# Altium integrated library ON Semi MOSFETs.IntLib: 1097 symbols (part 3 of 26)
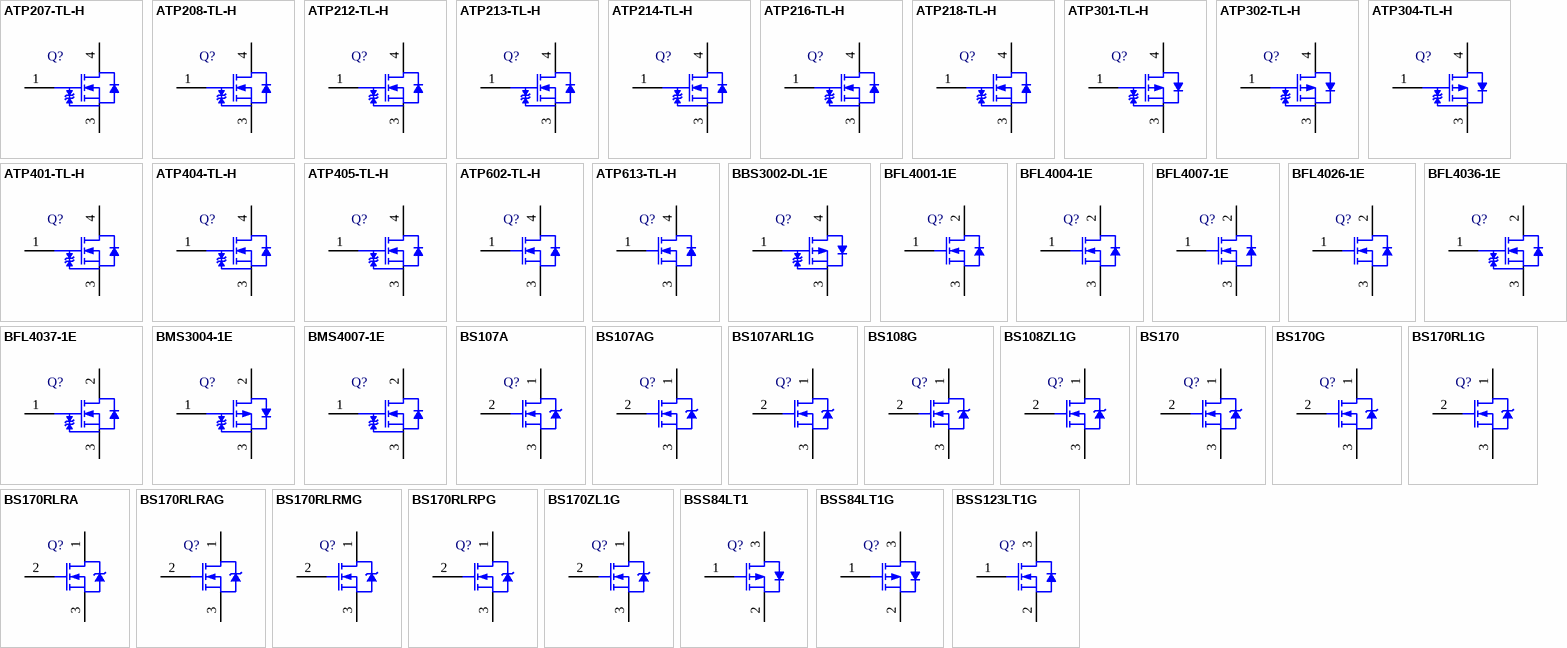
[diagram p33: symbols ATP207-TL-H to BSS123LT1G]

## ATP212-TL-H
designator Q?
N-Channel Power MOSFET, 60 V, 35 A, 23 mOhm, Single, 3-Pin ATPAK, Pb-Free, Tape and Reel; Manufacturer: On Semiconductor; PartNumber: ATP212-TL-H; Channel Polarity: N Channel; Ciss Typ (pF): 1820; Coss Typ (pF): 150; Crss Typ (pF): 100; ID Max (A): 35; PD Max (W): 40; V(BR)DSS Min (V): 60; VGS Max (V): 20; VGS(th) Max (V): 2.6; PackageVersion: Rev. O, 02/2012; PackageReference: ATPAK-3-369AM; PackageDescription: 3-Pin Flange Mount, Body 6.5 x 7.3 mm, Pitch 2.3 mm; Supplier 1: Digi-Key; Supplier Part Number 1: 869-1084-2-ND; Supplier 2: Digi-Key; Supplier Part Number 2: 869-1084-1-ND; Supplier 3: Digi-Key; Supplier Part Number 3: 869-1084-6-ND; Supplier 4: Mouser; Supplier Part Number 4: 863-ATP212-TL-H; Configuration: Single; Package Type: DPAK (Single Gauge) / ATPAK; Packing: Tape and Reel; RoHS: Pb-Free; Mounting Technology: Surface Mount; ComponentLink1Description: Manufacturer URL; ComponentLink1URL: http://www.onsemi.com/; ComponentLink2Description: Datasheet; ComponentLink2URL: http://www.onsemi.com/pub_link/Collateral/ATP212-D.PDF; ComponentLink3Description: Package Specification; ComponentLink3URL: http://www.onsemi.com/pub_link/Collateral/369AM.PDF
footprint ONSC-ATPAK-3-369AM_V (DPAK, 3-Leads, Body 7.3x6.5mm, Pitch 2.3mm)
pins: 1 G, 3 S, 4 D

## ATP213-TL-H
designator Q?
N-Channel Power MOSFET, 60 V, 50 A, 16 mOhm, Single, 3-Pin ATPAK, Pb-Free, Tape and Reel; Manufacturer: On Semiconductor; PartNumber: ATP213-TL-H; Channel Polarity: N Channel; Ciss Typ (pF): 3150; Coss Typ (pF): 310; Crss Typ (pF): 190; ID Max (A): 50; V(BR)DSS Min (V): 60; VGS Max (V): 20; VGS(th) Max (V): 2.6; PackageVersion: Rev. O, 02/2012; PackageReference: ATPAK-3-369AM; PackageDescription: 3-Pin Flange Mount, Body 6.5 x 7.3 mm, Pitch 2.3 mm; Supplier 1: Digi-Key; Supplier Part Number 1: 869-1085-2-ND; Supplier 2: Digi-Key; Supplier Part Number 2: 869-1085-1-ND; Supplier 3: Digi-Key; Supplier Part Number 3: 869-1085-6-ND; Supplier 4: Mouser; Supplier Part Number 4: 863-ATP213-TL-H; Configuration: Single; Package Type: DPAK (Single Gauge) / ATPAK; Packing: Tape and Reel; PD Max (W): 50; RoHS: Pb-Free; Mounting Technology: Surface Mount; ComponentLink1Description: Manufacturer URL; ComponentLink1URL: http://www.onsemi.com/; ComponentLink2Description: Datasheet; ComponentLink2URL: http://www.onsemi.com/pub_link/Collateral/ATP213-D.PDF; ComponentLink3Description: Package Specification; ComponentLink3URL: http://www.onsemi.com/pub_link/Collateral/369AM.PDF
footprint ONSC-ATPAK-3-369AM_V (DPAK, 3-Leads, Body 7.3x6.5mm, Pitch 2.3mm)
pins: 1 G, 3 S, 4 D

## ATP214-TL-H
designator Q?
N-Channel Power MOSFET, 60 V, 75 A, 8.1 mOhm, Single, 3-Pin ATPAK, Pb-Free, Tape and Reel; Manufacturer: On Semiconductor; PartNumber: ATP214-TL-H; Channel Polarity: N Channel; Ciss Typ (pF): 4850; Coss Typ (pF): 370; Crss Typ (pF): 280; ID Max (A): 75; PD Max (W): 60; VGS Max (V): 20; VGS(th) Max (V): 2.6; PackageVersion: Rev. O, 02/2012; PackageReference: ATPAK-3-369AM; PackageDescription: 3-Pin Flange Mount, Body 6.5 x 7.3 mm, Pitch 2.3 mm; Supplier 1: Digi-Key; Supplier Part Number 1: ATP214-TL-H-ND; Supplier 2: Mouser; Supplier Part Number 2: 863-ATP214-TL-H; Configuration: Single; Package Type: DPAK (Single Gauge) / ATPAK; Packing: Tape and Reel; RoHS: Pb-Free; V(BR)DSS Min (V): 60; Mounting Technology: Surface Mount; ComponentLink1Description: Manufacturer URL; ComponentLink1URL: http://www.onsemi.com/; ComponentLink2Description: Datasheet; ComponentLink2URL: http://www.onsemi.com/pub_link/Collateral/ENA1712-D.PDF; ComponentLink3Description: Package Specification; ComponentLink3URL: http://www.onsemi.com/pub_link/Collateral/369AM.PDF
footprint ONSC-ATPAK-3-369AM_V (DPAK, 3-Leads, Body 7.3x6.5mm, Pitch 2.3mm)
pins: 1 G, 3 S, 4 D

## ATP216-TL-H
designator Q?
N-Channel Power MOSFET, 50 V, 35 A, 23 mOhm, Single, 3-Pin ATPAK, Pb-Free, Tape and Reel; Manufacturer: On Semiconductor; PartNumber: ATP216-TL-H; Channel Polarity: N Channel; Ciss Typ (pF): 2700; Coss Typ (pF): 150; Crss Typ (pF): 110; ID Max (A): 35; PD Max (W): 40; V(BR)DSS Min (V): 50; VGS Max (V): 10; VGS(th) Max (V): 1.4; PackageVersion: Rev. O, 02/2012; PackageReference: ATPAK-3-369AM; PackageDescription: 3-Pin Flange Mount, Body 6.5 x 7.3 mm, Pitch 2.3 mm; Supplier 1: Digi-Key; Supplier Part Number 1: ATP216-TL-H-ND; Supplier 2: Mouser; Supplier Part Number 2: 863-ATP216-TL-H; Configuration: Single; Package Type: DPAK (Single Gauge) / ATPAK; Packing: Tape and Reel; RoHS: Pb-Free; Mounting Technology: Surface Mount; ComponentLink1Description: Manufacturer URL; ComponentLink1URL: http://www.onsemi.com/; ComponentLink2Description: Datasheet; ComponentLink2URL: http://www.onsemi.com/pub_link/Collateral/ATP216-D.PDF; ComponentLink3Description: Package Specification; ComponentLink3URL: http://www.onsemi.com/pub_link/Collateral/369AM.PDF
footprint ONSC-ATPAK-3-369AM_V (DPAK, 3-Leads, Body 7.3x6.5mm, Pitch 2.3mm)
pins: 1 G, 3 S, 4 D

## ATP218-TL-H
designator Q?
N-Channel Power MOSFET, 30 V, 100 A, 3.8 mOhm, Single, 3-Pin ATPAK, Pb-Free, Tape and Reel; Manufacturer: On Semiconductor; PartNumber: ATP218-TL-H; Channel Polarity: N Channel; Ciss Typ (pF): 6600; Coss Typ (pF): 780; Crss Typ (pF): 600; ID Max (A): 100; PD Max (W): 60; V(BR)DSS Min (V): 30; VGS Max (V): 10; VGS(th) Max (V): 1.3; PackageVersion: Rev. O, 02/2012; PackageReference: ATPAK-3-369AM; PackageDescription: 3-Pin Flange Mount, Body 6.5 x 7.3 mm, Pitch 2.3 mm; Supplier 1: Digi-Key; Supplier Part Number 1: ATP218-TL-H-ND; Supplier 2: Mouser; Supplier Part Number 2: 863-ATP218-TL-H; Configuration: Single; Package Type: DPAK (Single Gauge) / ATPAK; Packing: Tape and Reel; RoHS: Pb-Free; Mounting Technology: Surface Mount; ComponentLink1Description: Manufacturer URL; ComponentLink1URL: http://www.onsemi.com/; ComponentLink2Description: Datasheet; ComponentLink2URL: http://www.onsemi.com/pub_link/Collateral/ATP218-D.PDF; ComponentLink3Description: Package Specification; ComponentLink3URL: http://www.onsemi.com/pub_link/Collateral/369AM.PDF
footprint ONSC-ATPAK-3-369AM_V (DPAK, 3-Leads, Body 7.3x6.5mm, Pitch 2.3mm)
pins: 1 G, 3 S, 4 D

## ATP301-TL-H
designator Q?
P-Channel Power MOSFET, -100 V, -28 A, 75 mOhm, 3-Pin ATPAK, Pb-Free, Tape and Reel; Manufacturer: On Semiconductor; PartNumber: ATP301-TL-H; Channel Polarity: P Channel; Ciss Typ (pF): 4000; Configuration: Single; Coss Typ (pF): 270; Crss Typ (pF): 150; ID Max (A): 28; PD Max (W): 70; V(BR)DSS Min (V): 100; VGS Max (V): 20; VGS(th) Max (V): 3.5; PackageVersion: Rev. O, 02/2012; PackageReference: ATPAK-3-369AM; PackageDescription: 3-Pin Flange Mount, Body 6.5 x 7.3 mm, Pitch 2.3 mm; Supplier 1: Digi-Key; Supplier Part Number 1: 869-1086-2-ND; Supplier 2: Digi-Key; Supplier Part Number 2: 869-1086-1-ND; Supplier 3: Digi-Key; Supplier Part Number 3: 869-1086-6-ND; Supplier 4: Newark; Supplier Part Number 4: 52T7541; Supplier 5: Mouser; Supplier Part Number 5: 863-ATP301-TL-H; Package Type: DPAK (Single Gauge) / ATPAK; Packing: Tape and Reel; RoHS: Pb-Free; Mounting Technology: Surface Mount; ComponentLink1Description: Manufacturer URL; ComponentLink1URL: http://www.onsemi.com/; ComponentLink2Description: Datasheet; ComponentLink2URL: http://www.onsemi.com/pub_link/Collateral/ATP301-D.PDF; ComponentLink3Description: Package Specification; ComponentLink3URL: http://www.onsemi.com/pub_link/Collateral/369AM.PDF
footprint ONSC-ATPAK-3-369AM_V (DPAK, 3-Leads, Body 7.3x6.5mm, Pitch 2.3mm)
pins: 1 G, 3 S, 4 D

## ATP302-TL-H
designator Q?
P-Channel Power MOSFET, -60 V, -70 A, 13 mOhm, 3-Pin ATPAK, Pb-Free, Tape and Reel; Manufacturer: On Semiconductor; PartNumber: ATP302-TL-H; Channel Polarity: P Channel; Ciss Typ (pF): 5400; Configuration: Single; Coss Typ (pF): 500; Crss Typ (pF): 370; ID Max (A): 70; V(BR)DSS Min (V): 60; VGS Max (V): 20; VGS(th) Max (V): 2.6; PackageVersion: Rev. O, 02/2012; PackageReference: ATPAK-3-369AM; PackageDescription: 3-Pin Flange Mount, Body 6.5 x 7.3 mm, Pitch 2.3 mm; Supplier 1: Digi-Key; Supplier Part Number 1: ATP302-TL-H-ND; Supplier 2: Newark; Supplier Part Number 2: 52T7542; Supplier 3: Mouser; Supplier Part Number 3: 863-ATP302-TL-H; Package Type: DPAK (Single Gauge) / ATPAK; Packing: Tape and Reel; PD Max (W): 70; RoHS: Pb-Free; Mounting Technology: Surface Mount; ComponentLink1Description: Manufacturer URL; ComponentLink1URL: http://www.onsemi.com/; ComponentLink2Description: Datasheet; ComponentLink2URL: http://www.onsemi.com/pub_link/Collateral/ATP302-D.PDF; ComponentLink3Description: Package Specification; ComponentLink3URL: http://www.onsemi.com/pub_link/Collateral/369AM.PDF
footprint ONSC-ATPAK-3-369AM_V (DPAK, 3-Leads, Body 7.3x6.5mm, Pitch 2.3mm)
pins: 1 G, 3 S, 4 D

## ATP304-TL-H
designator Q?
P-Channel Power MOSFET, -60 V, -100 A, 6.5 mOhm, 3-Pin ATPAK, Pb-Free, Tape and Reel; Manufacturer: On Semiconductor; PartNumber: ATP304-TL-H; Channel Polarity: P Channel; Ciss Typ (pF): 13000; Configuration: Single; Coss Typ (pF): 1080; Crss Typ (pF): 760; ID Max (A): 100; PD Max (W): 90; Qrr Typ (nC): 245; V(BR)DSS Min (V): 60; VGS Max (V): 20; VGS(th) Max (V): 2.6; PackageVersion: Rev. O, 02/2012; PackageReference: ATPAK-3-369AM; PackageDescription: 3-Pin Flange Mount, Body 6.5 x 7.3 mm, Pitch 2.3 mm; Supplier 1: Newark; Supplier Part Number 1: 97W4952; Supplier 2: Mouser; Supplier Part Number 2: 863-ATP304-TL-H; Package Type: DPAK (Single Gauge) / ATPAK; Packing: Tape and Reel; RoHS: Pb-Free; Mounting Technology: Surface Mount; ComponentLink1Description: Manufacturer URL; ComponentLink1URL: http://www.onsemi.com/; ComponentLink2Description: Datasheet; ComponentLink2URL: http://www.onsemi.com/pub_link/Collateral/ENA2192-D.PDF; ComponentLink3Description: Package Specification; ComponentLink3URL: http://www.onsemi.com/pub_link/Collateral/369AM.PDF
footprint ONSC-ATPAK-3-369AM_V (DPAK, 3-Leads, Body 7.3x6.5mm, Pitch 2.3mm)
pins: 1 G, 3 S, 4 D

## ATP401-TL-H
designator Q?
N-Channel Power MOSFET, 60 V, 100 A, 3.7 mOhm, 3-Pin ATPAK, Pb-Free, Tape and Reel; Manufacturer: On Semiconductor; PartNumber: ATP401-TL-H; Channel Polarity: N Channel; Ciss Typ (pF): 17000; Configuration: Single; Coss Typ (pF): 1000; Crss Typ (pF): 770; ID Max (A): 100; PD Max (W): 90; V(BR)DSS Min (V): 60; VGS Max (V): 20; VGS(th) Max (V): 2.6; PackageVersion: Rev. O, 02/2012; PackageReference: ATPAK-3-369AM; PackageDescription: 3-Pin Flange Mount, Body 6.5 x 7.3 mm, Pitch 2.3 mm; Supplier 1: Newark; Supplier Part Number 1: 97W4953; Supplier 2: Mouser; Supplier Part Number 2: 863-ATP401-TL-H; Package Type: DPAK (Single Gauge) / ATPAK; Packing: Tape and Reel; RoHS: Pb-Free; Mounting Technology: Surface Mount; ComponentLink1Description: Manufacturer URL; ComponentLink1URL: http://www.onsemi.com/; ComponentLink2Description: Datasheet; ComponentLink2URL: http://www.onsemi.com/pub_link/Collateral/ENA2167-D.PDF; ComponentLink3Description: Package Specification; ComponentLink3URL: http://www.onsemi.com/pub_link/Collateral/369AM.PDF
footprint ONSC-ATPAK-3-369AM_V (DPAK, 3-Leads, Body 7.3x6.5mm, Pitch 2.3mm)
pins: 1 G, 3 S, 4 D

## ATP404-TL-H
designator Q?
N-Channel Power MOSFET, 60 V, 95 A, 7.2 mOhm, 3-Pin ATPAK, Pb-Free, Tape and Reel; Manufacturer: On Semiconductor; PartNumber: ATP404-TL-H; Channel Polarity: N Channel; Ciss Typ (pF): 6400; Configuration: Single; Coss Typ (pF): 490; Crss Typ (pF): 380; ID Max (A): 95; PD Max (W): 70; V(BR)DSS Min (V): 60; VGS Max (V): 20; VGS(th) Max (V): 2.6; PackageVersion: Rev. O, 02/2012; PackageReference: ATPAK-3-369AM; PackageDescription: 3-Pin Flange Mount, Body 6.5 x 7.3 mm, Pitch 2.3 mm; Supplier 1: Digi-Key; Supplier Part Number 1: 869-1087-2-ND; Supplier 2: Digi-Key; Supplier Part Number 2: 869-1087-1-ND; Supplier 3: Digi-Key; Supplier Part Number 3: 869-1087-6-ND; Supplier 4: Mouser; Supplier Part Number 4: 863-ATP404-TL-H; Package Type: DPAK (Single Gauge) / ATPAK; Packing: Tape and Reel; RoHS: Pb-Free; Mounting Technology: Surface Mount; ComponentLink1Description: Manufacturer URL; ComponentLink1URL: http://www.onsemi.com/; ComponentLink2Description: Datasheet; ComponentLink2URL: http://www.onsemi.com/pub_link/Collateral/ATP404-D.PDF; ComponentLink3Description: Package Specification; ComponentLink3URL: http://www.onsemi.com/pub_link/Collateral/369AM.PDF
footprint ONSC-ATPAK-3-369AM_V (DPAK, 3-Leads, Body 7.3x6.5mm, Pitch 2.3mm)
pins: 1 G, 3 S, 4 D

## ATP405-TL-H
designator Q?
N-Channel Power MOSFET, 100 V, 40 A, 33 mOhm, 3-Pin ATPAK, Pb-Free, Tape and Reel; Manufacturer: On Semiconductor; PartNumber: ATP405-TL-H; Channel Polarity: N Channel; Ciss Typ (pF): 4000; Configuration: Single; Coss Typ (pF): 300; Crss Typ (pF): 170; ID Max (A): 40; PD Max (W): 70; V(BR)DSS Min (V): 100; VGS Max (V): 20; VGS(th) Max (V): 3.5; PackageVersion: Rev. O, 02/2012; PackageReference: ATPAK-3-369AM; PackageDescription: 3-Pin Flange Mount, Body 6.5 x 7.3 mm, Pitch 2.3 mm; Supplier 1: Digi-Key; Supplier Part Number 1: 869-1088-2-ND; Supplier 2: Digi-Key; Supplier Part Number 2: 869-1088-1-ND; Supplier 3: Digi-Key; Supplier Part Number 3: 869-1088-6-ND; Supplier 4: Mouser; Supplier Part Number 4: 863-ATP405-TL-H; Package Type: DPAK (Single Gauge) / ATPAK; Packing: Tape and Reel; RoHS: Pb-Free; Mounting Technology: Surface Mount; ComponentLink1Description: Manufacturer URL; ComponentLink1URL: http://www.onsemi.com/; ComponentLink2Description: Datasheet; ComponentLink2URL: http://www.onsemi.com/pub_link/Collateral/ATP405-D.PDF; ComponentLink3Description: Package Specification; ComponentLink3URL: http://www.onsemi.com/pub_link/Collateral/369AM.PDF
footprint ONSC-ATPAK-3-369AM_V (DPAK, 3-Leads, Body 7.3x6.5mm, Pitch 2.3mm)
pins: 1 G, 3 S, 4 D

## ATP602-TL-H
designator Q?
N-Channel Power MOSFET, 600 V, 5 A, 2.7 Ohm, 3-Pin ATPAK, Pb-Free, Tape and Reel; Manufacturer: On Semiconductor; PartNumber: ATP602-TL-H; Channel Polarity: N Channel; Ciss Typ (pF): 350; Configuration: Single; Coss Typ (pF): 68; Crss Typ (pF): 15; ID Max (A): 5; PD Max (W): 70; V(BR)DSS Min (V): 600; VGS Max (V): 30; PackageVersion: Rev. O, 02/2012; PackageReference: ATPAK-3-369AM; PackageDescription: 3-Pin Flange Mount, Body 6.5 x 7.3 mm, Pitch 2.3 mm; Supplier 1: Digi-Key; Supplier Part Number 1: 869-1089-2-ND; Supplier 2: Digi-Key; Supplier Part Number 2: 869-1089-1-ND; Supplier 3: Digi-Key; Supplier Part Number 3: 869-1089-6-ND; Supplier 4: Mouser; Supplier Part Number 4: 863-ATP602-TL-H; Package Type: DPAK (Single Gauge) / ATPAK; Packing: Tape and Reel; RoHS: Pb-Free; VGS(th) Max (V): 5; Mounting Technology: Surface Mount; ComponentLink1Description: Manufacturer URL; ComponentLink1URL: http://www.onsemi.com/; ComponentLink2Description: Datasheet; ComponentLink2URL: http://www.onsemi.com/pub_link/Collateral/ATP602-D.PDF; ComponentLink3Description: Package Specification; ComponentLink3URL: http://www.onsemi.com/pub_link/Collateral/369AM.PDF
footprint ONSC-ATPAK-3-369AM_V (DPAK, 3-Leads, Body 7.3x6.5mm, Pitch 2.3mm)
pins: 1 G, 3 S, 4 D

## ATP613-TL-H
designator Q?
N-Channel Power MOSFET, 500 V, 5.5 A, 2 Ohm, 3-Pin ATPAK, Pb-Free, Tape and Reel; Manufacturer: On Semiconductor; PartNumber: ATP613-TL-H; Channel Polarity: N Channel; Ciss Typ (pF): 350; Configuration: Single; Coss Typ (pF): 68; Crss Typ (pF): 15; ID Max (A): 5.5; PD Max (W): 70; Qrr Typ (nC): 120; V(BR)DSS Min (V): 500; VGS Max (V): 30; VGS(th) Max (V): 5; PackageVersion: Rev. O, 02/2012; PackageReference: ATPAK-3-369AM; PackageDescription: 3-Pin Flange Mount, Body 6.5 x 7.3 mm, Pitch 2.3 mm; Supplier 1: Digi-Key; Supplier Part Number 1: ATP613-TL-H-ND; Supplier 2: Mouser; Supplier Part Number 2: 863-ATP613-TL-H; Package Type: DPAK (Single Gauge) / ATPAK; Packing: Tape and Reel; RoHS: Pb-Free; Mounting Technology: Surface Mount; ComponentLink1Description: Manufacturer URL; ComponentLink1URL: http://www.onsemi.com/; ComponentLink2Description: Datasheet; ComponentLink2URL: http://www.onsemi.com/pub_link/Collateral/ENA1903-D.PDF; ComponentLink3Description: Package Specification; ComponentLink3URL: http://www.onsemi.com/pub_link/Collateral/369AM.PDF
footprint ONSC-ATPAK-3-369AM_V (DPAK, 3-Leads, Body 7.3x6.5mm, Pitch 2.3mm)
pins: 1 G, 3 S, 4 D

## BBS3002-DL-1E
designator Q?
P-Channel Power MOSFET, -60 V, -100 A, 5.8 mOhm, 3-Pin TO-263, Pb-Free, Tape and Reel; Manufacturer: On Semiconductor; PartNumber: BBS3002-DL-1E; Channel Polarity: P Channel; Ciss Typ (pF): 13200; Configuration: Single; Coss Typ (pF): 1300; Crss Typ (pF): 950; ID Max (A): 100; PD Max (W): 90; V(BR)DSS Min (V): 60; VGS Max (V): 20; VGS(th) Max (V): 2.6; PackageReference: TO-263-2L-3; PackageDescription: 3-Pin Flange Mount, Body 10 x 9.2 mm, Pitch 2.54 mm; Supplier 1: Newark; Supplier Part Number 1: 56W5114; Supplier 2: Mouser; Supplier Part Number 2: 863-BBS3002-DL-1E; Package Type: D2PAK / TO-263-2L; Packing: Tape and Reel; RoHS: Pb-Free; Mounting Technology: Surface Mount; ComponentLink1Description: Manufacturer URL; ComponentLink1URL: http://www.onsemi.com/; ComponentLink2Description: Datasheet; ComponentLink2URL: http://www.onsemi.com/pub_link/Collateral/BBS3002-D.PDF; ComponentLink3Description: Package Specification; ComponentLink3URL: http://www.onsemi.com/pub_link/Collateral/2SK3820-D.PDF
footprint ONSC-TO-263-2L-3_V (FM, 3-Leads, Body 10x9.2mm, Pitch 2.54mm)
pins: 1 G, 3 S, 4 D

## BFL4001-1E
designator Q?
N-Channel Power MOSFET, 900 V, 6.5 A, 2.7 Ohm, 3-Pin TO-220, Pb-Free, Tube; Manufacturer: On Semiconductor; PartNumber: BFL4001-1E; Channel Polarity: N Channel; Ciss Typ (pF): 850; Configuration: Single; Coss Typ (pF): 130; Crss Typ (pF): 43; V(BR)DSS Min (V): 900; VGS Max (V): 30; VGS(th) Max (V): 4; PackageVersion: Rev. O, 01/2012; PackageReference: TO-220F-3FS-3-221AM; PackageDescription: 3-Pin Flange Mount, Vertical Straight Lead, Body 10.16 x 4.7 mm, Pitch 2.54 mm; Supplier 1: Newark; Supplier Part Number 1: 56W5139; Supplier 2: Mouser; Supplier Part Number 2: 863-BFL4001-1E; Package Type: TO-220F-3FS; Packing: Tube; RoHS: Pb-Free; Mounting Technology: Through Hole; ComponentLink1Description: Manufacturer URL; ComponentLink1URL: http://www.onsemi.com/; ComponentLink2Description: Datasheet; ComponentLink2URL: http://www.onsemi.com/pub_link/Collateral/BFL4001-D.PDF; ComponentLink3Description: Package Specification; ComponentLink3URL: http://www.onsemi.com/pub_link/Collateral/221AM.PDF
footprint ONSC-TO-220F-3FS-3-221AM (FM, 3-Leads, Body 10.4x4.9mm, Pitch 2.54mm)
pins: 1 G, 2 D, 3 S

## BFL4004-1E
designator Q?
N-Channel Power MOSFET, 800 V, 6.5 A, 2.5 Ohm, 3-Pin TO-220, Pb-Free, Tube; Manufacturer: On Semiconductor; PartNumber: BFL4004-1E; Channel Polarity: N Channel; Ciss Typ (pF): 710; Configuration: Single; Coss Typ (pF): 120; Crss Typ (pF): 42; Qrr Typ (nC): 6700; V(BR)DSS Min (V): 800; VGS Max (V): 30; VGS(th) Max (V): 4; PackageVersion: Rev. O, 01/2012; PackageReference: TO-220F-3FS-3-221AM; PackageDescription: 3-Pin Flange Mount, Vertical Straight Lead, Body 10.16 x 4.7 mm, Pitch 2.54 mm; Supplier 1: Newark; Supplier Part Number 1: 97W4958; Supplier 2: Mouser; Supplier Part Number 2: 863-BFL4004-1E; Package Type: TO-220F-3FS; Packing: Tube; RoHS: Pb-Free; Mounting Technology: Through Hole; ComponentLink1Description: Manufacturer URL; ComponentLink1URL: http://www.onsemi.com/; ComponentLink2Description: Datasheet; ComponentLink2URL: http://www.onsemi.com/pub_link/Collateral/BFL4004-D.PDF; ComponentLink3Description: Package Specification; ComponentLink3URL: http://www.onsemi.com/pub_link/Collateral/221AM.PDF
footprint ONSC-TO-220F-3FS-3-221AM (FM, 3-Leads, Body 10.4x4.9mm, Pitch 2.54mm)
pins: 1 G, 2 D, 3 S

## BFL4007-1E
designator Q?
N-Channel Power MOSFET, 600 V, 14 A, 0.68 Ohm, 3-Pin TO-220, Pb-Free, Tube; Manufacturer: On Semiconductor; PartNumber: BFL4007-1E; Channel Polarity: N Channel; Ciss Typ (pF): 1200; Configuration: Single; Coss Typ (pF): 220; Crss Typ (pF): 43; Qrr Typ (nC): 250; V(BR)DSS Min (V): 600; VGS Max (V): 30; VGS(th) Max (V): 5; PackageVersion: Rev. O, 01/2012; PackageReference: TO-220F-3FS-3-221AM; PackageDescription: 3-Pin Flange Mount, Vertical Straight Lead, Body 10.16 x 4.7 mm, Pitch 2.54 mm; Supplier 1: Newark; Supplier Part Number 1: 97W4959; Supplier 2: Mouser; Supplier Part Number 2: 863-BFL4007-1E; Package Type: TO-220F-3FS; Packing: Tube; RoHS: Pb-Free; Mounting Technology: Through Hole; ComponentLink1Description: Manufacturer URL; ComponentLink1URL: http://www.onsemi.com/; ComponentLink2Description: Datasheet; ComponentLink2URL: http://www.onsemi.com/pub_link/Collateral/ENA1689-D.PDF; ComponentLink3Description: Package Specification; ComponentLink3URL: http://www.onsemi.com/pub_link/Collateral/221AM.PDF
footprint ONSC-TO-220F-3FS-3-221AM (FM, 3-Leads, Body 10.4x4.9mm, Pitch 2.54mm)
pins: 1 G, 2 D, 3 S

## BFL4026-1E
designator Q?
N-Channel Power MOSFET, 900 V, 5 A, 3.6 Ohm, 3-Pin TO-220, Pb-Free, Tube; Manufacturer: On Semiconductor; PartNumber: BFL4026-1E; Channel Polarity: N Channel; Ciss Typ (pF): 650; Configuration: Single; Coss Typ (pF): 100; Crss Typ (pF): 35; Qrr Typ (nC): 4700; V(BR)DSS Min (V): 900; VGS Max (V): 30; VGS(th) Max (V): 4; PackageVersion: Rev. O, 01/2012; PackageReference: TO-220F-3FS-3-221AM; PackageDescription: 3-Pin Flange Mount, Vertical Straight Lead, Body 10.16 x 4.7 mm, Pitch 2.54 mm; Supplier 1: Newark; Supplier Part Number 1: 56W5140; Supplier 2: Mouser; Supplier Part Number 2: 863-BFL4026-1E; Package Type: TO-220F-3FS; Packing: Tube; RoHS: Pb-Free; Mounting Technology: Through Hole; ComponentLink1Description: Manufacturer URL; ComponentLink1URL: http://www.onsemi.com/; ComponentLink2Description: Datasheet; ComponentLink2URL: http://www.onsemi.com/pub_link/Collateral/BFL4026-D.PDF; ComponentLink3Description: Package Specification; ComponentLink3URL: http://www.onsemi.com/pub_link/Collateral/221AM.PDF
footprint ONSC-TO-220F-3FS-3-221AM (FM, 3-Leads, Body 10.4x4.9mm, Pitch 2.54mm)
pins: 1 G, 2 D, 3 S

## BFL4036-1E
designator Q?
N-Channel Power MOSFET, 500 V, 14 A, 0.52 Ohm, 3-Pin TO-220, Pb-Free, Tube; Manufacturer: On Semiconductor; PartNumber: BFL4036-1E; Channel Polarity: N Channel; Ciss Typ (pF): 1000; Configuration: Single; Coss Typ (pF): 200; Crss Typ (pF): 44; Qrr Typ (nC): 4200; V(BR)DSS Min (V): 500; VGS Max (V): 30; VGS(th) Max (V): 5; PackageVersion: Rev. O, 01/2012; PackageReference: TO-220F-3FS-3-221AM; PackageDescription: 3-Pin Flange Mount, Vertical Straight Lead, Body 10.16 x 4.7 mm, Pitch 2.54 mm; Supplier 1: Newark; Supplier Part Number 1: 72W1560; Supplier 2: Mouser; Supplier Part Number 2: 863-BFL4036-1E; Package Type: TO-220F-3FS; Packing: Tube; RoHS: Pb-Free; Mounting Technology: Through Hole; ComponentLink1Description: Manufacturer URL; ComponentLink1URL: http://www.onsemi.com/; ComponentLink2Description: Datasheet; ComponentLink2URL: http://www.onsemi.com/pub_link/Collateral/BFL4036-D.PDF; ComponentLink3Description: Package Specification; ComponentLink3URL: http://www.onsemi.com/pub_link/Collateral/221AM.PDF
footprint ONSC-TO-220F-3FS-3-221AM (FM, 3-Leads, Body 10.4x4.9mm, Pitch 2.54mm)
pins: 1 G, 2 D, 3 S

## BFL4037-1E
designator Q?
N-Channel Power MOSFET, 500 V, 16 A, 0.43 Ohm, 3-Pin TO-220, Pb-Free, Tube; Manufacturer: On Semiconductor; PartNumber: BFL4037-1E; Channel Polarity: N Channel; Ciss Typ (pF): 1200; Configuration: Single; Coss Typ (pF): 250; Crss Typ (pF): 55; Qrr Typ (nC): 5000; V(BR)DSS Min (V): 500; VGS Max (V): 30; VGS(th) Max (V): 5; PackageVersion: Rev. O, 01/2012; PackageReference: TO-220F-3FS-3-221AM; PackageDescription: 3-Pin Flange Mount, Vertical Straight Lead, Body 10.16 x 4.7 mm, Pitch 2.54 mm; Supplier 1: Newark; Supplier Part Number 1: 72W1561; Supplier 2: Mouser; Supplier Part Number 2: 863-BFL4037-1E; Package Type: TO-220F-3FS; Packing: Tube; RoHS: Pb-Free; Mounting Technology: Through Hole; ComponentLink1Description: Manufacturer URL; ComponentLink1URL: http://www.onsemi.com/; ComponentLink2Description: Datasheet; ComponentLink2URL: http://www.onsemi.com/pub_link/Collateral/BFL4037-D.PDF; ComponentLink3Description: Package Specification; ComponentLink3URL: http://www.onsemi.com/pub_link/Collateral/221AM.PDF
footprint ONSC-TO-220F-3FS-3-221AM (FM, 3-Leads, Body 10.4x4.9mm, Pitch 2.54mm)
pins: 1 G, 2 D, 3 S

## BMS3004-1E
designator Q?
P-Channel Power MOSFET, -75 V, -68 A, 8.5 mOhm, 3-Pin TO-220, Pb-Free, Tube; Manufacturer: On Semiconductor; PartNumber: BMS3004-1E; Channel Polarity: P Channel; Ciss Typ (pF): 13400; Configuration: Single; Coss Typ (pF): 1000; Crss Typ (pF): 740; ID Max (A): 68; Qrr Typ (nC): 470; V(BR)DSS Min (V): 75; VGS Max (V): 20; VGS(th) Max (V): 2.6; PackageVersion: Rev. O, 11/2013; PackageReference: TO-220F-3FG-3-221AT; PackageDescription: 3-Pin Flange Mount, Vertical Straight Lead, Body 10.16 x 4.7 mm, Pitch 2.54 mm; Supplier 1: Newark; Supplier Part Number 1: 56W5141; Supplier 2: Mouser; Supplier Part Number 2: 863-BMS3004-1E; Package Type: TO-220 Fullpack, 3-Lead / TO-220F-3SG; Packing: Tube; RoHS: Pb-Free; Mounting Technology: Through Hole; ComponentLink1Description: Manufacturer URL; ComponentLink1URL: http://www.onsemi.com/; ComponentLink2Description: Datasheet; ComponentLink2URL: http://www.onsemi.com/pub_link/Collateral/ENA1908-D.PDF; ComponentLink3Description: Package Specification; ComponentLink3URL: http://www.onsemi.com/pub_link/Collateral/221AT.PDF
footprint ONSC-TO-220F-3FG-3-221AT (FM, 3-Leads, Body 10.4x4.9mm, Pitch 2.54mm)
pins: 1 G, 2 D, 3 S

## BMS4007-1E
designator Q?
N-Channel Power MOSFET, 75 V, 60 A, 7.8 mOhm, 3-Pin TO-220, Tube; Manufacturer: On Semiconductor; PartNumber: BMS4007-1E; Channel Polarity: N Channel; Ciss Typ (pF): 9700; Configuration: Single; Coss Typ (pF): 540; Crss Typ (pF): 360; ID Max (A): 60; Qrr Typ (nC): 183; V(BR)DSS Min (V): 75; VGS Max (V): 20; VGS(th) Max (V): 4; PackageVersion: Rev. O, 01/2012; PackageReference: TO-220ML-3-221AR; PackageDescription: 3-Pin Flange Mount, Vertical Straight Lead, Body 10 x 4.5 mm, Pitch 2.55 mm; Package Type: TO-220ML(LS); Packing: Tube; Mounting Technology: Through Hole; ComponentLink1Description: Manufacturer URL; ComponentLink1URL: http://www.onsemi.com/; ComponentLink2Description: Datasheet; ComponentLink2URL: http://www.onsemi.com/pub_link/Collateral/BMS4007-D.PDF; ComponentLink3Description: Package Specification; ComponentLink3URL: http://www.onsemi.com/pub_link/Collateral/221AR.PDF
footprint ONSC-TO-220ML-3-221AR (FM, 3-Leads, Body 10.3x4.8mm, Pitch 2.55mm)
pins: 1 G, 2 D, 3 S

## BS107A
designator Q?
Small Signal MOSFET, 250 A, 200 V, N-Channel, 3-Pin TO-92, Bulk Box; Manufacturer: On Semiconductor; PartNumber: BS107A; Channel Polarity: N Channel; Ciss Typ (pF): 60; Configuration: Single; Coss Typ (pF): 30; Crss Typ (pF): 6; ID Max (A): 0.25; PD Max (W): 0.35; V(BR)DSS Min (V): 200; VGS Max (V): 20; VGS(th) Max (V): 3; DatasheetVersion: Rev. 6; PackageVersion: Rev. AM; PackageReference: TO-92-3-29-11_AM_SL; PackageDescription: 3-Pin Transistor Outline, Body 4.825 x 3.685 mm, Pitch 1.27 mm; Supplier 1: Mouser; Supplier Part Number 1: 863-BS107A; Package Type: TO-92; Packing: Bulk Box; Mounting Technology: Through Hole; ComponentLink1Description: Manufacturer URL; ComponentLink1URL: http://www.onsemi.com/; ComponentLink2Description: Datasheet; ComponentLink2URL: http://www.onsemi.com/pub_link/Collateral/BS107-D.PDF; ComponentLink3Description: Package Specification; ComponentLink3URL: http://www.onsemi.cn/pub_link/Collateral/2N6426-D.PDF
footprint ONSC-TO-92-3-29-11 (TO, 3-Leads, Body Dia 4.7mm, Pitch 1.27mm)
pins: 1 D, 2 G, 3 S

## BS107AG
designator Q?
Small Signal MOSFET, 250 A, 200 V, N-Channel, 3-Pin TO-92, Pb-Free, Bulk Box; Manufacturer: On Semiconductor; PartNumber: BS107AG; Channel Polarity: N Channel; Ciss Typ (pF): 60; Configuration: Single; Coss Typ (pF): 30; Crss Typ (pF): 6; ID Max (A): 0.25; PD Max (W): 0.35; V(BR)DSS Min (V): 200; VGS Max (V): 20; VGS(th) Max (V): 3; DatasheetVersion: Rev. 6; PackageVersion: Rev. AM; PackageReference: TO-92-3-29-11_AM_SL; PackageDescription: 3-Pin Transistor Outline, Body 4.825 x 3.685 mm, Pitch 1.27 mm; Supplier 1: Digi-Key; Supplier Part Number 1: BS107AGOS-ND; Supplier 2: Mouser; Supplier Part Number 2: 863-BS107AG; Package Type: TO-92; Packing: Bulk Box; RoHS: Pb-Free; Mounting Technology: Through Hole; ComponentLink1Description: Manufacturer URL; ComponentLink1URL: http://www.onsemi.com/; ComponentLink2Description: Datasheet; ComponentLink2URL: http://www.onsemi.com/pub_link/Collateral/BS107-D.PDF; ComponentLink3Description: Package Specification; ComponentLink3URL: http://www.onsemi.cn/pub_link/Collateral/2N6426-D.PDF
footprint ONSC-TO-92-3-29-11 (TO, 3-Leads, Body Dia 4.7mm, Pitch 1.27mm)
pins: 1 D, 2 G, 3 S

## BS107ARL1G
designator Q?
Small Signal MOSFET, 250 A, 200 V, N-Channel, 3-Pin TO-92, Pb-Free, Tape and Reel; Manufacturer: On Semiconductor; PartNumber: BS107ARL1G; Channel Polarity: N Channel; Ciss Typ (pF): 60; Configuration: Single; Coss Typ (pF): 30; Crss Typ (pF): 6; ID Max (A): 0.25; PD Max (W): 0.35; V(BR)DSS Min (V): 200; VGS Max (V): 20; VGS(th) Max (V): 3; DatasheetVersion: Rev. 6; PackageVersion: Rev. AM; PackageReference: TO-92-3-29-11_AM_BL; PackageDescription: 3-Pin Transistor Outline, Body 4.825 x 3.685 mm, Pitch 1.27 mm; Supplier 1: Digi-Key; Supplier Part Number 1: BS107ARL1GOSTR-ND; Supplier 2: Digi-Key; Supplier Part Number 2: BS107ARL1GOSCT-ND; Supplier 3: Farnell; Supplier Part Number 3: 2101818; Supplier 4: Newark; Supplier Part Number 4: 45J0626; Supplier 5: Mouser; Supplier Part Number 5: 863-BS107ARL1G; Package Type: TO-92; Packing: Tape and Reel; RoHS: Pb-Free; Mounting Technology: Through Hole; ComponentLink1Description: Manufacturer URL; ComponentLink1URL: http://www.onsemi.com/; ComponentLink2Description: Datasheet; ComponentLink2URL: http://www.onsemi.com/pub_link/Collateral/BS107-D.PDF; ComponentLink3Description: Package Specification; ComponentLink3URL: http://www.onsemi.com/pub_link/Collateral/MAC97-D.PDF
footprint ONSC-TO-92-3-29-11_AM_BL (TO, 3-Leads, Body Dia 4.7mm, Pitch 2.6mm)
pins: 1 D, 2 G, 3 S

## BS108G
designator Q?
Small Signal MOSFET, 250 A, 200 V, Logic Level, N-Channel, 3-Pin TO-92, Pb-Free, Bulk Box; Manufacturer: On Semiconductor; PartNumber: BS108G; Channel Polarity: N Channel; Configuration: Single; ID Max (A): 0.25; PD Max (W): 0.35; V(BR)DSS Min (V): 200; VGS Max (V): 20; VGS(th) Max (V): 1.5; DatasheetVersion: Rev. 4; PackageVersion: Rev. AM; PackageReference: TO-92-3-29-11_AM_SL; PackageDescription: 3-Pin Transistor Outline, Body 4.825 x 3.685 mm, Pitch 1.27 mm; Supplier 1: Digi-Key; Supplier Part Number 1: BS108G-ND; Supplier 2: Mouser; Supplier Part Number 2: 863-BS108G; Package Type: TO-92; Packing: Bulk Box; RoHS: Pb-Free; Mounting Technology: Through Hole; ComponentLink1Description: Manufacturer URL; ComponentLink1URL: http://www.onsemi.com/; ComponentLink2Description: Datasheet; ComponentLink2URL: http://www.onsemi.com/pub_link/Collateral/BS108-D.PDF; ComponentLink3Description: Package Specification; ComponentLink3URL: http://www.onsemi.cn/pub_link/Collateral/2N6426-D.PDF
footprint ONSC-TO-92-3-29-11 (TO, 3-Leads, Body Dia 4.7mm, Pitch 1.27mm)
pins: 1 D, 2 G, 3 S

## BS108ZL1G
designator Q?
Small Signal MOSFET, 250 A, 200 V, Logic Level, N-Channel, 3-Pin TO-92, Pb-Free, Fan-Fold; Manufacturer: On Semiconductor; PartNumber: BS108ZL1G; Channel Polarity: N Channel; Configuration: Single; ID Max (A): 0.25; PD Max (W): 0.35; V(BR)DSS Min (V): 200; VGS Max (V): 20; VGS(th) Max (V): 1.5; DatasheetVersion: Rev. 4; PackageVersion: Rev. AM; PackageReference: TO-92-3-29-11_AM_BL; PackageDescription: 3-Pin Transistor Outline, Body 4.825 x 3.685 mm, Pitch 1.27 mm; Supplier 1: Digi-Key; Supplier Part Number 1: BS108ZL1GOSTB-ND; Supplier 2: Digi-Key; Supplier Part Number 2: BS108ZL1GOSCT-ND; Supplier 3: Newark; Supplier Part Number 3: 41K9628; Supplier 4: Mouser; Supplier Part Number 4: 863-BS108ZL1G; Package Type: TO-92; Packing: Fan-Fold; RoHS: Pb-Free; Mounting Technology: Through Hole; ComponentLink1Description: Manufacturer URL; ComponentLink1URL: http://www.onsemi.com/; ComponentLink2Description: Datasheet; ComponentLink2URL: http://www.onsemi.com/pub_link/Collateral/BS108-D.PDF; ComponentLink3Description: Package Specification; ComponentLink3URL: http://www.onsemi.com/pub_link/Collateral/MAC97-D.PDF
footprint ONSC-TO-92-3-29-11_AM_BL (TO, 3-Leads, Body Dia 4.7mm, Pitch 2.6mm)
pins: 1 D, 2 G, 3 S

## BS170
designator Q?
Small Signal MOSFET, 500 mA, 60 V, N-Channel, 3-Pin TO-92, Bulk Box; Manufacturer: On Semiconductor; PartNumber: BS170; Channel Polarity: N Channel; Configuration: Single; ID Max (A): 0.5; PD Max (W): 0.35; V(BR)DSS Min (V): 60; VGS Max (V): 20; VGS(th) Max (V): 3; DatasheetVersion: Rev. 6; PackageVersion: Rev. AM; PackageReference: TO-92-3-29-11_AM_SL; PackageDescription: 3-Pin Transistor Outline, Body 4.825 x 3.685 mm, Pitch 1.27 mm; Supplier 1: Digi-Key; Supplier Part Number 1: BS170OS-ND; Package Type: TO-92; Packing: Bulk Box; Mounting Technology: Through Hole; ComponentLink1Description: Manufacturer URL; ComponentLink1URL: http://www.onsemi.com/; ComponentLink2Description: Datasheet; ComponentLink2URL: http://www.onsemi.com/pub_link/Collateral/BS170-D.PDF; ComponentLink3Description: Package Specification; ComponentLink3URL: http://www.onsemi.cn/pub_link/Collateral/2N6426-D.PDF
footprint ONSC-TO-92-3-29-11 (TO, 3-Leads, Body Dia 4.7mm, Pitch 1.27mm)
pins: 1 D, 2 G, 3 S

## BS170G
designator Q?
Small Signal MOSFET, 500 mA, 60 V, N-Channel, 3-Pin TO-92, Pb-Free, Bulk Box; Manufacturer: On Semiconductor; PartNumber: BS170G; Channel Polarity: N Channel; Configuration: Single; ID Max (A): 0.5; PD Max (W): 0.35; V(BR)DSS Min (V): 60; VGS Max (V): 20; VGS(th) Max (V): 3; DatasheetVersion: Rev. 6; PackageVersion: Rev. AM; PackageReference: TO-92-3-29-11_AM_SL; PackageDescription: 3-Pin Transistor Outline, Body 4.825 x 3.685 mm, Pitch 1.27 mm; Supplier 1: Digi-Key; Supplier Part Number 1: BS170GOS-ND; Supplier 2: Farnell; Supplier Part Number 2: 9556192; Supplier 3: Newark; Supplier Part Number 3: 88H4576; Supplier 4: Mouser; Supplier Part Number 4: 863-BS170G; Package Type: TO-92; Packing: Bulk Box; RoHS: Pb-Free; Mounting Technology: Through Hole; ComponentLink1Description: Manufacturer URL; ComponentLink1URL: http://www.onsemi.com/; ComponentLink2Description: Datasheet; ComponentLink2URL: http://www.onsemi.com/pub_link/Collateral/BS170-D.PDF; ComponentLink3Description: Package Specification; ComponentLink3URL: http://www.onsemi.cn/pub_link/Collateral/2N6426-D.PDF
footprint ONSC-TO-92-3-29-11 (TO, 3-Leads, Body Dia 4.7mm, Pitch 1.27mm)
pins: 1 D, 2 G, 3 S

## BS170RL1G
designator Q?
Small Signal MOSFET, 500 mA, 60 V, N-Channel, 3-Pin TO-92, Pb-Free, Tape and Reel; Manufacturer: On Semiconductor; PartNumber: BS170RL1G; Channel Polarity: N Channel; Configuration: Single; ID Max (A): 0.5; PD Max (W): 0.35; V(BR)DSS Min (V): 60; VGS Max (V): 20; VGS(th) Max (V): 3; DatasheetVersion: Rev. 6; PackageVersion: Rev. AM; PackageReference: TO-92-3-29-11_AM_SL; PackageDescription: 3-Pin Transistor Outline, Body 4.825 x 3.685 mm, Pitch 1.27 mm; Supplier 1: Digi-Key; Supplier Part Number 1: BS170RL1GOSTR-ND; Supplier 2: Digi-Key; Supplier Part Number 2: BS170RL1GOSCT-ND; Supplier 3: Mouser; Supplier Part Number 3: 863-BS170RL1G; Package Type: TO-92; Packing: Tape and Reel; RoHS: Pb-Free; Mounting Technology: Through Hole; ComponentLink1Description: Manufacturer URL; ComponentLink1URL: http://www.onsemi.com/; ComponentLink2Description: Datasheet; ComponentLink2URL: http://www.onsemi.com/pub_link/Collateral/BS170-D.PDF; ComponentLink3Description: Package Specification; ComponentLink3URL: http://www.onsemi.cn/pub_link/Collateral/2N6426-D.PDF
footprint ONSC-TO-92-3-29-11 (TO, 3-Leads, Body Dia 4.7mm, Pitch 1.27mm)
pins: 1 D, 2 G, 3 S

## BS170RLRA
designator Q?
Small Signal MOSFET, 500 mA, 60 V, N-Channel, 3-Pin TO-92, Tape and Reel; Manufacturer: On Semiconductor; PartNumber: BS170RLRA; Channel Polarity: N Channel; Configuration: Single; ID Max (A): 0.5; PD Max (W): 0.35; V(BR)DSS Min (V): 60; VGS Max (V): 20; VGS(th) Max (V): 3; DatasheetVersion: Rev. 6; PackageVersion: Rev. AM; PackageReference: TO-92-3-29-11_AM_BL; PackageDescription: 3-Pin Transistor Outline, Body 4.825 x 3.685 mm, Pitch 1.27 mm; Supplier 1: Digi-Key; Supplier Part Number 1: BS170RLRAOSTR-ND; Supplier 2: Digi-Key; Supplier Part Number 2: BS170RLRAOSCT-ND; Package Type: TO-92; Packing: Tape and Reel; Mounting Technology: Through Hole; ComponentLink1Description: Manufacturer URL; ComponentLink1URL: http://www.onsemi.com/; ComponentLink2Description: Datasheet; ComponentLink2URL: http://www.onsemi.com/pub_link/Collateral/BS170-D.PDF; ComponentLink3Description: Package Specification; ComponentLink3URL: http://www.onsemi.com/pub_link/Collateral/MAC97-D.PDF
footprint ONSC-TO-92-3-29-11_AM_BL (TO, 3-Leads, Body Dia 4.7mm, Pitch 2.6mm)
pins: 1 D, 2 G, 3 S

## BS170RLRAG
designator Q?
Small Signal MOSFET, 500 mA, 60 V, N-Channel, 3-Pin TO-92, Pb-Free, Tape and Reel; Manufacturer: On Semiconductor; PartNumber: BS170RLRAG; Channel Polarity: N Channel; Configuration: Single; ID Max (A): 0.5; PD Max (W): 0.35; V(BR)DSS Min (V): 60; VGS Max (V): 20; VGS(th) Max (V): 3; DatasheetVersion: Rev. 6; PackageVersion: Rev. AM; PackageReference: TO-92-3-29-11_AM_BL; PackageDescription: 3-Pin Transistor Outline, Body 4.825 x 3.685 mm, Pitch 1.27 mm; Supplier 1: Digi-Key; Supplier Part Number 1: BS170RLRAGOSTR-ND; Supplier 2: Digi-Key; Supplier Part Number 2: BS170RLRAGOSCT-ND; Supplier 3: Farnell; Supplier Part Number 3: 1147850; Supplier 4: Newark; Supplier Part Number 4: 71J3430; Supplier 5: Mouser; Supplier Part Number 5: 863-BS170RLRAG; Package Type: TO-92; Packing: Tape and Reel; RoHS: Pb-Free; Mounting Technology: Through Hole; ComponentLink1Description: Manufacturer URL; ComponentLink1URL: http://www.onsemi.com/; ComponentLink2Description: Datasheet; ComponentLink2URL: http://www.onsemi.com/pub_link/Collateral/BS170-D.PDF; ComponentLink3Description: Package Specification; ComponentLink3URL: http://www.onsemi.com/pub_link/Collateral/MAC97-D.PDF
footprint ONSC-TO-92-3-29-11_AM_BL (TO, 3-Leads, Body Dia 4.7mm, Pitch 2.6mm)
pins: 1 D, 2 G, 3 S

## BS170RLRMG
designator Q?
Small Signal MOSFET, 500 mA, 60 V, N-Channel, 3-Pin TO-92, Pb-Free, Fan-Fold; Manufacturer: On Semiconductor; PartNumber: BS170RLRMG; Channel Polarity: N Channel; Configuration: Single; ID Max (A): 0.5; PD Max (W): 0.35; V(BR)DSS Min (V): 60; VGS Max (V): 20; VGS(th) Max (V): 3; DatasheetVersion: Rev. 6; PackageVersion: Rev. AM; PackageReference: TO-92-3-29-11_AM_BL; PackageDescription: 3-Pin Transistor Outline, Body 4.825 x 3.685 mm, Pitch 1.27 mm; Supplier 1: Digi-Key; Supplier Part Number 1: BS170RLRMGOSTB-ND; Supplier 2: Digi-Key; Supplier Part Number 2: BS170RLRMGOSCT-ND; Supplier 3: Mouser; Supplier Part Number 3: 863-BS170RLRMG; Package Type: TO-92; Packing: Fan-Fold; RoHS: Pb-Free; Mounting Technology: Through Hole; ComponentLink1Description: Manufacturer URL; ComponentLink1URL: http://www.onsemi.com/; ComponentLink2Description: Datasheet; ComponentLink2URL: http://www.onsemi.com/pub_link/Collateral/BS170-D.PDF; ComponentLink3Description: Package Specification; ComponentLink3URL: http://www.onsemi.com/pub_link/Collateral/MAC97-D.PDF
footprint ONSC-TO-92-3-29-11_AM_BL (TO, 3-Leads, Body Dia 4.7mm, Pitch 2.6mm)
pins: 1 D, 2 G, 3 S

## BS170RLRPG
designator Q?
Small Signal MOSFET, 500 mA, 60 V, N-Channel, 3-Pin TO-92, Pb-Free, Tape and Reel; Manufacturer: On Semiconductor; PartNumber: BS170RLRPG; Channel Polarity: N Channel; Configuration: Single; ID Max (A): 0.5; PD Max (W): 0.35; V(BR)DSS Min (V): 60; VGS Max (V): 20; VGS(th) Max (V): 3; DatasheetVersion: Rev. 6; PackageVersion: Rev. AM; PackageReference: TO-92-3-29-11_AM_BL; PackageDescription: 3-Pin Transistor Outline, Body 4.825 x 3.685 mm, Pitch 1.27 mm; Supplier 1: Digi-Key; Supplier Part Number 1: BS170RLRPG-ND; Supplier 2: Mouser; Supplier Part Number 2: 863-BS170RLRPG; Package Type: TO-92; Packing: Tape and Reel; RoHS: Pb-Free; Mounting Technology: Through Hole; ComponentLink1Description: Manufacturer URL; ComponentLink1URL: http://www.onsemi.com/; ComponentLink2Description: Datasheet; ComponentLink2URL: http://www.onsemi.com/pub_link/Collateral/BS170-D.PDF; ComponentLink3Description: Package Specification; ComponentLink3URL: http://www.onsemi.com/pub_link/Collateral/MAC97-D.PDF
footprint ONSC-TO-92-3-29-11_AM_BL (TO, 3-Leads, Body Dia 4.7mm, Pitch 2.6mm)
pins: 1 D, 2 G, 3 S

## BS170ZL1G
designator Q?
Small Signal MOSFET, 500 mA, 60 V, N-Channel, 3-Pin TO-92, Pb-Free, Tape and Reel; Manufacturer: On Semiconductor; PartNumber: BS170ZL1G; Channel Polarity: N Channel; Configuration: Single; ID Max (A): 0.5; PD Max (W): 0.35; V(BR)DSS Min (V): 60; VGS Max (V): 20; VGS(th) Max (V): 3; DatasheetVersion: Rev. 6; PackageVersion: Rev. AM; PackageReference: TO-92-3-29-11_AM_BL; PackageDescription: 3-Pin Transistor Outline, Body 4.825 x 3.685 mm, Pitch 1.27 mm; Supplier 1: Digi-Key; Supplier Part Number 1: BS170ZL1GOSTR-ND; Supplier 2: Digi-Key; Supplier Part Number 2: BS170ZL1GOSCT-ND; Supplier 3: Mouser; Supplier Part Number 3: 863-BS170ZL1G; Package Type: TO-92; Packing: Tape and Reel; RoHS: Pb-Free; Mounting Technology: Through Hole; ComponentLink1Description: Manufacturer URL; ComponentLink1URL: http://www.onsemi.com/; ComponentLink2Description: Datasheet; ComponentLink2URL: http://www.onsemi.com/pub_link/Collateral/BS170-D.PDF; ComponentLink3Description: Package Specification; ComponentLink3URL: http://www.onsemi.com/pub_link/Collateral/MAC97-D.PDF
footprint ONSC-TO-92-3-29-11_AM_BL (TO, 3-Leads, Body Dia 4.7mm, Pitch 2.6mm)
pins: 1 D, 2 G, 3 S

## BSS84LT1
designator Q?
Power MOSFET Single P-Channel, -50 V, 10 Ohm, 3-Pin SOT-23, Tape and Reel; Manufacturer: On Semiconductor; PartNumber: BSS84LT1; Channel Polarity: P Channel; Ciss Typ (pF): 36; Coss Typ (pF): 17; Crss Typ (pF): 6.5; ID Max (A): 0.13; PD Max (W): 0.225; V(BR)DSS Min (V): 50; VGS Max (V): 20; VGS(th) Max (V): 2; DatasheetVersion: Rev. 8; PackageVersion: Rev. AP, 11/2009; PackageReference: SOT-23-3-318-08; PackageDescription: 3-Pin Small Outline Transistor, Body 2.92 x 1.3 mm, Pitch 0.95 mm; Supplier 1: Digi-Key; Supplier Part Number 1: BSS84LT1OSCT-ND; Supplier 2: Digi-Key; Supplier Part Number 2: BSS84LT1OSDKR-ND; Configuration: Single; Package Type: SOT-23-3; Packing: Tape and Reel; Mounting Technology: Surface Mount; ComponentLink1Description: Manufacturer URL; ComponentLink1URL: http://www.onsemi.com/; ComponentLink2Description: Datasheet; ComponentLink2URL: http://www.onsemi.com/pub_link/Collateral/BSS84LT1-D.PDF; ComponentLink3Description: Package Specification; ComponentLink3URL: http://www.onsemi.cn/pub_link/Collateral/318-08.PDF
footprint ONSC-SOT-23-3-318-08_V (SOT23, 3-Leads, Body 2.92x1.3mm, Pitch 0.95mm)
pins: 1 G, 2 S, 3 D

## BSS84LT1G
designator Q?
Power MOSFET Single P-Channel, -50 V, 10 Ohm, 3-Pin SOT-23, Pb-Free, Tape and Reel; Manufacturer: On Semiconductor; PartNumber: BSS84LT1G; Channel Polarity: P Channel; Ciss Typ (pF): 36; Coss Typ (pF): 17; Crss Typ (pF): 6.5; ID Max (A): 0.13; PD Max (W): 0.225; V(BR)DSS Min (V): 50; VGS Max (V): 20; VGS(th) Max (V): 2; DatasheetVersion: Rev. 8; PackageVersion: Rev. AP, 11/2009; PackageReference: SOT-23-3-318-08; PackageDescription: 3-Pin Small Outline Transistor, Body 2.92 x 1.3 mm, Pitch 0.95 mm; Supplier 1: Digi-Key; Supplier Part Number 1: BSS84LT1GOSTR-ND; Supplier 2: Digi-Key; Supplier Part Number 2: BSS84LT1GOSCT-ND; Supplier 3: Digi-Key; Supplier Part Number 3: BSS84LT1GOSDKR-ND; Supplier 4: Farnell; Supplier Part Number 4: 1431318; Supplier 5: Farnell; Supplier Part Number 5: 1431318RL; Supplier 6: Newark; Supplier Part Number 6: 98H0511; Supplier 7: Newark; Supplier Part Number 7: 35P2751; Supplier 8: Mouser; Supplier Part Number 8: 863-BSS84LT1G; Configuration: Single; Package Type: SOT-23-3; Packing: Tape and Reel; RoHS: Pb-Free; Mounting Technology: Surface Mount; ComponentLink1Description: Manufacturer URL; ComponentLink1URL: http://www.onsemi.com/; ComponentLink2Description: Datasheet; ComponentLink2URL: http://www.onsemi.com/pub_link/Collateral/BSS84LT1-D.PDF; ComponentLink3Description: Package Specification; ComponentLink3URL: http://www.onsemi.cn/pub_link/Collateral/318-08.PDF
footprint ONSC-SOT-23-3-318-08_V (SOT23, 3-Leads, Body 2.92x1.3mm, Pitch 0.95mm)
pins: 1 G, 2 S, 3 D

## BSS123LT1G
designator Q?
Power MOSFET, 170 mA, 100 V, N-Channel, 3-Pin SOT-23, Pb-Free, Tape and Reel; Manufacturer: On Semiconductor; PartNumber: BSS123LT1G; Channel Polarity: N Channel; Ciss Typ (pF): 20; Configuration: Single; Coss Typ (pF): 9; Crss Typ (pF): 4; ID Max (A): 0.17; PD Max (W): 0.225; V(BR)DSS Min (V): 100; VGS(th) Max (V): 2.6; DatasheetVersion: Rev. 8; PackageVersion: Rev. AP, 11/2009; PackageReference: SOT-23-3-318-08; PackageDescription: 3-Pin Small Outline Transistor, Body 2.92 x 1.3 mm, Pitch 0.95 mm; Supplier 1: Digi-Key; Supplier Part Number 1: BSS123LT1GOSTR-ND; Supplier 2: Digi-Key; Supplier Part Number 2: BSS123LT1GOSCT-ND; Supplier 3: Digi-Key; Supplier Part Number 3: BSS123LT1GOSDKR-ND; Supplier 4: Farnell; Supplier Part Number 4: 2317884; Supplier 5: Farnell; Supplier Part Number 5: 9558640RL; Supplier 6: Farnell; Supplier Part Number 6: 9558640; Supplier 7: Newark; Supplier Part Number 7: 83H6428; Supplier 8: Newark; Supplier Part Number 8: 85W3129; Supplier 9: Mouser; Supplier Part Number 9: 863-BSS123LT1G; Package Type: SOT-23-3; Packing: Tape and Reel; RoHS: Pb-Free; VGS Max (V): 20; Mounting Technology: Surface Mount; ComponentLink1Description: Manufacturer URL; ComponentLink1URL: http://www.onsemi.com/; ComponentLink2Description: Datasheet; ComponentLink2URL: http://www.onsemi.com/pub_link/Collateral/BSS123LT1-D.PDF; ComponentLink3Description: Package Specification; ComponentLink3URL: http://www.onsemi.cn/pub_link/Collateral/318-08.PDF
footprint ONSC-SOT-23-3-318-08_V (SOT23, 3-Leads, Body 2.92x1.3mm, Pitch 0.95mm)
pins: 1 G, 2 S, 3 D

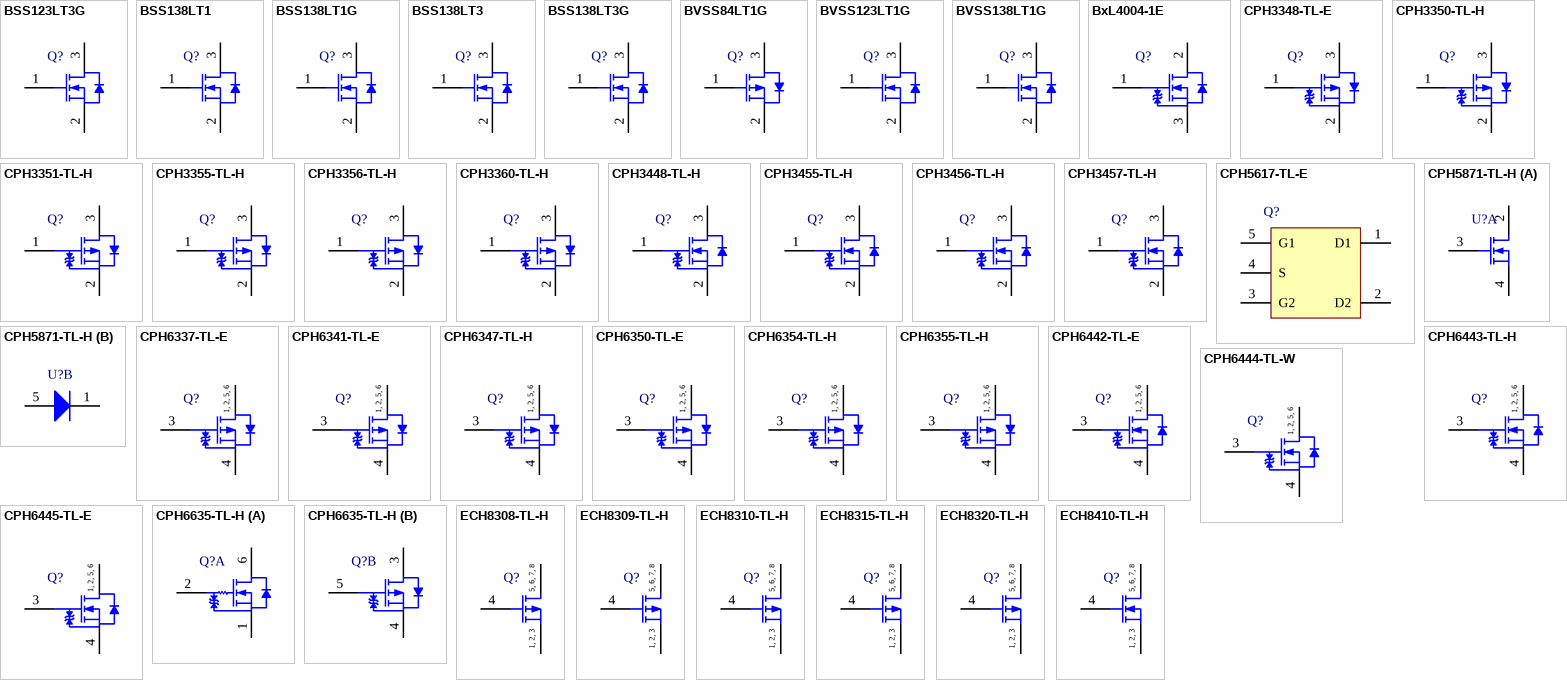
[diagram p3: symbols BSS123LT3G to ECH8410-TL-H]

## BSS123LT3G
designator Q?
Power MOSFET, 170 mA, 100 V, N-Channel, 3-Pin SOT-23, Pb-Free, Tape and Reel; Manufacturer: On Semiconductor; PartNumber: BSS123LT3G; Channel Polarity: N Channel; Ciss Typ (pF): 20; Configuration: Single; Coss Typ (pF): 9; Crss Typ (pF): 4; ID Max (A): 0.17; PD Max (W): 0.225; V(BR)DSS Min (V): 100; VGS(th) Max (V): 2.6; DatasheetVersion: Rev. 8; PackageVersion: Rev. AP, 11/2009; PackageReference: SOT-23-3-318-08; PackageDescription: 3-Pin Small Outline Transistor, Body 2.92 x 1.3 mm, Pitch 0.95 mm; Supplier 1: Digi-Key; Supplier Part Number 1: BSS123LT3G-ND; Supplier 2: Mouser; Supplier Part Number 2: 863-BSS123LT3G; Package Type: SOT-23-3; Packing: Tape and Reel; RoHS: Pb-Free; VGS Max (V): 20; Mounting Technology: Surface Mount; ComponentLink1Description: Manufacturer URL; ComponentLink1URL: http://www.onsemi.com/; ComponentLink2Description: Datasheet; ComponentLink2URL: http://www.onsemi.com/pub_link/Collateral/BSS123LT1-D.PDF; ComponentLink3Description: Package Specification; ComponentLink3URL: http://www.onsemi.cn/pub_link/Collateral/318-08.PDF
footprint ONSC-SOT-23-3-318-08_V (SOT23, 3-Leads, Body 2.92x1.3mm, Pitch 0.95mm)
pins: 1 G, 2 S, 3 D

## BSS138LT1
designator Q?
Power MOSFET, 200 mA, 50 V, N-Channel, 3-Pin SOT-23, Tape and Reel; Manufacturer: On Semiconductor; PartNumber: BSS138LT1; Channel Polarity: N Channel; Ciss Typ (pF): 40; Configuration: Single; Coss Typ (pF): 12; Crss Typ (pF): 3.5; ID Max (A): 0.2; PD Max (W): 0.225; V(BR)DSS Min (V): 50; VGS Max (V): 20; VGS(th) Max (V): 1.5; DatasheetVersion: Rev. 8; PackageVersion: Rev. AP, 11/2009; PackageReference: SOT-23-3-318-08; PackageDescription: 3-Pin Small Outline Transistor, Body 2.92 x 1.3 mm, Pitch 0.95 mm; Supplier 1: Digi-Key; Supplier Part Number 1: BSS138LT1OSCT-ND; Package Type: SOT-23-3; Packing: Tape and Reel; Mounting Technology: Surface Mount; ComponentLink1Description: Manufacturer URL; ComponentLink1URL: http://www.onsemi.com/; ComponentLink2Description: Datasheet; ComponentLink2URL: http://www.onsemi.com/pub_link/Collateral/BSS138LT1-D.PDF; ComponentLink3Description: Package Specification; ComponentLink3URL: http://www.onsemi.cn/pub_link/Collateral/318-08.PDF
footprint ONSC-SOT-23-3-318-08_V (SOT23, 3-Leads, Body 2.92x1.3mm, Pitch 0.95mm)
pins: 1 G, 2 S, 3 D

## BSS138LT1G
designator Q?
Power MOSFET, 200 mA, 50 V, N-Channel, 3-Pin SOT-23, Pb-Free, Tape and Reel; Manufacturer: On Semiconductor; PartNumber: BSS138LT1G; Channel Polarity: N Channel; Ciss Typ (pF): 40; Configuration: Single; Coss Typ (pF): 12; Crss Typ (pF): 3.5; ID Max (A): 0.2; PD Max (W): 0.225; V(BR)DSS Min (V): 50; VGS Max (V): 20; VGS(th) Max (V): 1.5; DatasheetVersion: Rev. 8; PackageVersion: Rev. AP, 11/2009; PackageReference: SOT-23-3-318-08; PackageDescription: 3-Pin Small Outline Transistor, Body 2.92 x 1.3 mm, Pitch 0.95 mm; Supplier 1: Digi-Key; Supplier Part Number 1: BSS138LT1GOSTR-ND; Supplier 2: Digi-Key; Supplier Part Number 2: BSS138LT1GOSCT-ND; Supplier 3: Digi-Key; Supplier Part Number 3: BSS138LT1GOSDKR-ND; Supplier 4: Farnell; Supplier Part Number 4: 2317879; Supplier 5: Farnell; Supplier Part Number 5: 1431319RL; Supplier 6: Farnell; Supplier Part Number 6: 1431319; Supplier 7: Newark; Supplier Part Number 7: 83H6430; Supplier 8: Newark; Supplier Part Number 8: 67R1294; Supplier 9: Mouser; Supplier Part Number 9: 863-BSS138LT1G; Package Type: SOT-23-3; Packing: Tape and Reel; RoHS: Pb-Free; Mounting Technology: Surface Mount; ComponentLink1Description: Manufacturer URL; ComponentLink1URL: http://www.onsemi.com/; ComponentLink2Description: Datasheet; ComponentLink2URL: http://www.onsemi.com/pub_link/Collateral/BSS138LT1-D.PDF; ComponentLink3Description: Package Specification; ComponentLink3URL: http://www.onsemi.cn/pub_link/Collateral/318-08.PDF
footprint ONSC-SOT-23-3-318-08_V (SOT23, 3-Leads, Body 2.92x1.3mm, Pitch 0.95mm)
pins: 1 G, 2 S, 3 D